# Altium footprint library WR-PHD_Socket Header_1.27mm.PcbLib: 24 footprints (part 2 of 2)
Each footprint in its own frame and in the unit in brackets; x right, y up, seen from the top. Pads: shape width x height; smd on the part's side, far side on the other; paste and mask are expansions set on the pad; w line width, h text height; cw(c..) or ccw(c..) is an arc to the next point about the centre after c.
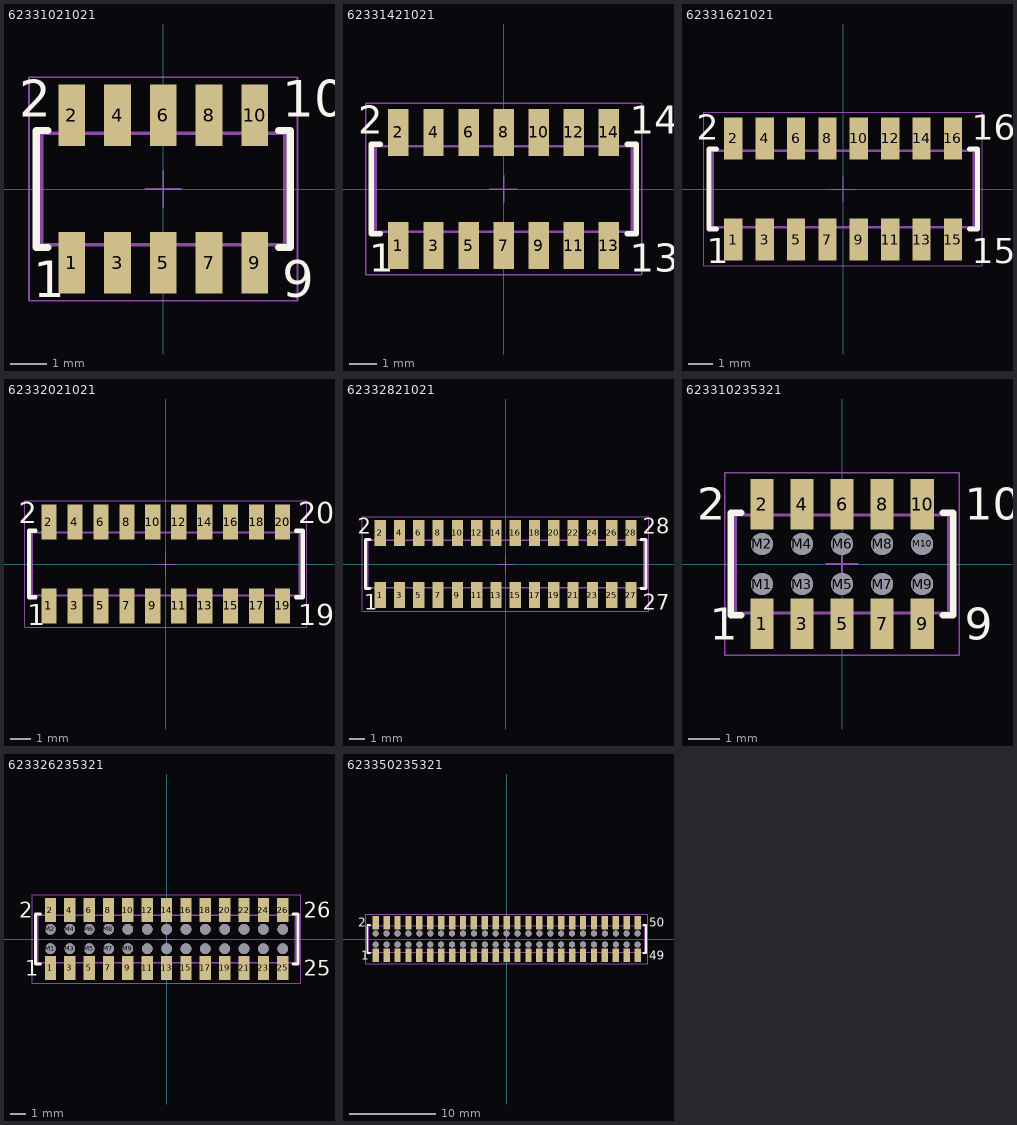
[diagram p1: the footprints below, top view; thin cyan lines are the x and y axes]

## 62331021021 [mm] "Socket Header, Pitch 1.27 mm, SMT, Vertical, dual row, 10p"
height 4.7
pads (10):
  rect 0.74x1.7 smd: 1(-2.54,-2.05) 2(-2.54,2.05) 3(-1.27,-2.05) 4(-1.27,2.05) 5(0,-2.05) 6(0,2.05) 7(1.27,-2.05) 8(1.27,2.05) 9(2.54,-2.05) 10(2.54,2.05)
Top Overlay:
  lines w0.2: -3.205,-1.625 -3.525,-1.625 -3.525,1.625 -3.205,1.625 ; 3.205,-1.625 3.525,-1.625 3.525,1.625 3.205,1.625
  text "1" at -3.605,-3 h1.02
  text "2" at -4.005,2 h1.02
  text "9" at 3.305,-3 h1.02
  text "10" at 3.305,2 h1.02
Mechanical 13:
  lines w0.1: -2.79,-1.55 -2.79,-2.3 -2.29,-2.3 -2.29,-1.55 ; -2.79,1.55 -2.79,2.3 -2.29,2.3 -2.29,1.55 ; -1.52,-1.55 -1.52,-2.3 -1.02,-2.3 -1.02,-1.55 ; -1.52,1.55 -1.52,2.3 -1.02,2.3 -1.02,1.55 ; -0.25,-1.55 -0.25,-2.3 0.25,-2.3 0.25,-1.55 ; -0.25,1.55 -0.25,2.3 0.25,2.3 0.25,1.55 ; 1.02,-1.55 1.02,-2.3 1.52,-2.3 1.52,-1.55 ; 1.02,1.55 1.02,2.3 1.52,2.3 1.52,1.55 ; 2.29,-1.55 2.29,-2.3 2.79,-2.3 2.79,-1.55 ; 2.29,1.55 2.29,2.3 2.79,2.3 2.79,1.55 ; -3.375,-1.55 -3.375,1.55 3.375,1.55 3.375,-1.55 -3.375,-1.55
Mechanical 15:
  lines w0.05: -0.5,0 0.5,0 ; 0,-0.5 0,0.5 ; -3.725,-3.1 -3.725,3.1 3.725,3.1 3.725,-3.1 -3.725,-3.1
3D body "62331021021.stp": height 4.69, standoff -0.01, extent -3.375,-2.299 3.375,2.299

## 62331421021 [mm] "Socket Header, Pitch 1.27 mm, SMT, Vertical, dual row, 14p"
height 4.7
pads (14):
  rect 0.74x1.7 smd: 1(-3.81,-2.05) 2(-3.81,2.05) 3(-2.54,-2.05) 4(-2.54,2.05) 5(-1.27,-2.05) 6(-1.27,2.05) 7(0,-2.05) 8(0,2.05) 9(1.27,-2.05) 10(1.27,2.05) 11(2.54,-2.05) 12(2.54,2.05) 13(3.81,-2.05) 14(3.81,2.05)
Top Overlay:
  lines w0.2: -4.475,-1.625 -4.795,-1.625 -4.795,1.625 -4.475,1.625 ; 4.475,-1.625 4.795,-1.625 4.795,1.625 4.475,1.625
  text "1" at -4.875,-3 h1.02
  text "2" at -5.275,2 h1.02
  text "13" at 4.575,-3 h1.02
  text "14" at 4.575,2 h1.02
Mechanical 13:
  lines w0.1: -4.06,-1.55 -4.06,-2.3 -3.56,-2.3 -3.56,-1.55 ; -4.06,1.55 -4.06,2.3 -3.56,2.3 -3.56,1.55 ; -2.79,-1.55 -2.79,-2.3 -2.29,-2.3 -2.29,-1.55 ; -2.79,1.55 -2.79,2.3 -2.29,2.3 -2.29,1.55 ; -1.52,-1.55 -1.52,-2.3 -1.02,-2.3 -1.02,-1.55 ; -1.52,1.55 -1.52,2.3 -1.02,2.3 -1.02,1.55 ; -0.25,-1.55 -0.25,-2.3 0.25,-2.3 0.25,-1.55 ; -0.25,1.55 -0.25,2.3 0.25,2.3 0.25,1.55 ; 1.02,-1.55 1.02,-2.3 1.52,-2.3 1.52,-1.55 ; 1.02,1.55 1.02,2.3 1.52,2.3 1.52,1.55 ; 2.29,-1.55 2.29,-2.3 2.79,-2.3 2.79,-1.55 ; 2.29,1.55 2.29,2.3 2.79,2.3 2.79,1.55 ; 3.56,-1.55 3.56,-2.3 4.06,-2.3 4.06,-1.55 ; 3.56,1.55 3.56,2.3 4.06,2.3 4.06,1.55 ; -4.645,-1.55 4.645,-1.55 4.645,1.55 -4.645,1.55 -4.645,-1.55
Mechanical 15:
  lines w0.05: -0.5,0 0.5,0 ; 0,-0.5 0,0.5 ; -4.995,-3.1 4.995,-3.1 4.995,3.1 -4.995,3.1 -4.995,-3.1
3D body "62331421021.stp": height 4.69, standoff -0.01, extent -4.645,-2.299 4.645,2.299

## 62331621021 [mm] "Socket Header, Pitch 1.27 mm, SMT, Vertical, dual row, 16p"
height 4.7
pads (16):
  rect 0.74x1.7 smd: 1(-4.445,-2.05) 2(-4.445,2.05) 3(-3.175,-2.05) 4(-3.175,2.05) 5(-1.905,-2.05) 6(-1.905,2.05) 7(-0.635,-2.05) 8(-0.635,2.05) 9(0.635,-2.05) 10(0.635,2.05) 11(1.905,-2.05) 12(1.905,2.05) 13(3.175,-2.05) 14(3.175,2.05) 15(4.445,-2.05) 16(4.445,2.05)
Top Overlay:
  lines w0.2: -5.11,-1.625 -5.43,-1.625 -5.43,1.625 -5.11,1.625 ; 5.11,-1.625 5.43,-1.625 5.43,1.625 5.11,1.625
  text "16" at 5.21,2 h1.02
  text "15" at 5.21,-3 h1.02
  text "2" at -5.91,2 h1.02
  text "1" at -5.51,-3 h1.02
Mechanical 13:
  lines w0.1: -4.695,-1.55 -4.695,-2.3 -4.195,-2.3 -4.195,-1.55 ; -4.695,1.55 -4.695,2.3 -4.195,2.3 -4.195,1.55 ; -3.425,-1.55 -3.425,-2.3 -2.925,-2.3 -2.925,-1.55 ; -3.425,1.55 -3.425,2.3 -2.925,2.3 -2.925,1.55 ; -2.155,-1.55 -2.155,-2.3 -1.655,-2.3 -1.655,-1.55 ; -2.155,1.55 -2.155,2.3 -1.655,2.3 -1.655,1.55 ; -0.885,-1.55 -0.885,-2.3 -0.385,-2.3 -0.385,-1.55 ; -0.885,1.55 -0.885,2.3 -0.385,2.3 -0.385,1.55 ; 0.385,-1.55 0.385,-2.3 0.885,-2.3 0.885,-1.55 ; 0.385,1.55 0.385,2.3 0.885,2.3 0.885,1.55 ; 1.655,-1.55 1.655,-2.3 2.155,-2.3 2.155,-1.55 ; 1.655,1.55 1.655,2.3 2.155,2.3 2.155,1.55 ; 2.925,-1.55 2.925,-2.3 3.425,-2.3 3.425,-1.55 ; 2.925,1.55 2.925,2.3 3.425,2.3 3.425,1.55 ; 4.195,-1.55 4.195,-2.3 4.695,-2.3 4.695,-1.55 ; 4.195,1.55 4.195,2.3 4.695,2.3 4.695,1.55 ; -5.28,-1.55 -5.28,1.55 5.28,1.55 5.28,-1.55 -5.28,-1.55
Mechanical 15:
  lines w0.05: -0.5,0 0.5,0 ; 0,-0.5 0,0.5 ; -5.63,-3.1 -5.63,3.1 5.63,3.1 5.63,-3.1 -5.63,-3.1
3D body "62331621021.stp": height 4.69, standoff -0.01, extent -5.28,-2.299 5.28,2.299

## 62332021021 [mm] "Socket Header, Pitch 1.27 mm, SMT, Vertical, dual row, 20p"
height 4.7
pads (20):
  rect 0.74x1.7 smd: 1(-5.715,-2.05) 2(-5.715,2.05) 3(-4.445,-2.05) 4(-4.445,2.05) 5(-3.175,-2.05) 6(-3.175,2.05) 7(-1.905,-2.05) 8(-1.905,2.05) 9(-0.635,-2.05) 10(-0.635,2.05) 11(0.635,-2.05) 12(0.635,2.05) 13(1.905,-2.05) 14(1.905,2.05) 15(3.175,-2.05) 16(3.175,2.05) 17(4.445,-2.05) 18(4.445,2.05) 19(5.715,-2.05) 20(5.715,2.05)
Top Overlay:
  lines w0.2: -6.38,-1.625 -6.7,-1.625 -6.7,1.625 -6.38,1.625 ; 6.38,-1.625 6.7,-1.625 6.7,1.625 6.38,1.625
  text "1" at -6.78,-3 h1.02
  text "2" at -7.18,2 h1.02
  text "19" at 6.48,-3 h1.02
  text "20" at 6.48,2 h1.02
Mechanical 13:
  lines w0.1: -5.965,-1.55 -5.965,-2.3 -5.465,-2.3 -5.465,-1.55 ; -5.965,1.55 -5.965,2.3 -5.465,2.3 -5.465,1.55 ; -4.695,-1.55 -4.695,-2.3 -4.195,-2.3 -4.195,-1.55 ; -4.695,1.55 -4.695,2.3 -4.195,2.3 -4.195,1.55 ; -3.425,-1.55 -3.425,-2.3 -2.925,-2.3 -2.925,-1.55 ; -3.425,1.55 -3.425,2.3 -2.925,2.3 -2.925,1.55 ; -2.155,-1.55 -2.155,-2.3 -1.655,-2.3 -1.655,-1.55 ; -2.155,1.55 -2.155,2.3 -1.655,2.3 -1.655,1.55 ; -0.885,-1.55 -0.885,-2.3 -0.385,-2.3 -0.385,-1.55 ; -0.885,1.55 -0.885,2.3 -0.385,2.3 -0.385,1.55 ; 0.385,-1.55 0.385,-2.3 0.885,-2.3 0.885,-1.55 ; 0.385,1.55 0.385,2.3 0.885,2.3 0.885,1.55 ; 1.655,-1.55 1.655,-2.3 2.155,-2.3 2.155,-1.55 ; 1.655,1.55 1.655,2.3 2.155,2.3 2.155,1.55 ; 2.925,-1.55 2.925,-2.3 3.425,-2.3 3.425,-1.55 ; 2.925,1.55 2.925,2.3 3.425,2.3 3.425,1.55 ; 4.195,-1.55 4.195,-2.3 4.695,-2.3 4.695,-1.55 ; 4.195,1.55 4.195,2.3 4.695,2.3 4.695,1.55 ; 5.465,-1.55 5.465,-2.3 5.965,-2.3 5.965,-1.55 ; 5.465,1.55 5.465,2.3 5.965,2.3 5.965,1.55 ; -6.55,-1.55 -6.55,1.55 6.55,1.55 6.55,-1.55 -6.55,-1.55
Mechanical 15:
  lines w0.05: -0.5,0 0.5,0 ; 0,-0.5 0,0.5 ; -6.9,-3.1 -6.9,3.1 6.9,3.1 6.9,-3.1 -6.9,-3.1
3D body "62332021021.stp": height 4.69, standoff -0.01, extent -6.55,-2.299 6.55,2.299

## 62332821021 [mm] "Socket Header, Pitch 1.27 mm, SMT, Vertical, dual row, 28p"
height 4.7
pads (28):
  rect 0.74x1.7 smd: 1(-8.255,-2.05) 2(-8.255,2.05) 3(-6.985,-2.05) 4(-6.985,2.05) 5(-5.715,-2.05) 6(-5.715,2.05) 7(-4.445,-2.05) 8(-4.445,2.05) 9(-3.175,-2.05) 10(-3.175,2.05) 11(-1.905,-2.05) 12(-1.905,2.05) 13(-0.635,-2.05) 14(-0.635,2.05) 15(0.635,-2.05) 16(0.635,2.05) 17(1.905,-2.05) 18(1.905,2.05) 19(3.175,-2.05) 20(3.175,2.05) 21(4.445,-2.05) 22(4.445,2.05) 23(5.715,-2.05) 24(5.715,2.05) 25(6.985,-2.05) 26(6.985,2.05) 27(8.255,-2.05) 28(8.255,2.05)
Top Overlay:
  lines w0.2: -8.92,-1.625 -9.24,-1.625 -9.24,1.625 -8.92,1.625 ; 8.92,-1.625 9.24,-1.625 9.24,1.625 8.92,1.625
  text "28" at 9.02,2 h1.02
  text "27" at 9.02,-3 h1.02
  text "1" at -9.32,-3 h1.02
  text "2" at -9.72,2 h1.02
Mechanical 13:
  lines w0.1: -8.505,-1.55 -8.505,-2.3 -8.005,-2.3 -8.005,-1.55 ; -8.505,1.55 -8.505,2.3 -8.005,2.3 -8.005,1.55 ; -7.235,-1.55 -7.235,-2.3 -6.735,-2.3 -6.735,-1.55 ; -7.235,1.55 -7.235,2.3 -6.735,2.3 -6.735,1.55 ; -5.965,-1.55 -5.965,-2.3 -5.465,-2.3 -5.465,-1.55 ; -5.965,1.55 -5.965,2.3 -5.465,2.3 -5.465,1.55 ; -4.695,-1.55 -4.695,-2.3 -4.195,-2.3 -4.195,-1.55 ; -4.695,1.55 -4.695,2.3 -4.195,2.3 -4.195,1.55 ; -3.425,-1.55 -3.425,-2.3 -2.925,-2.3 -2.925,-1.55 ; -3.425,1.55 -3.425,2.3 -2.925,2.3 -2.925,1.55 ; -2.155,-1.55 -2.155,-2.3 -1.655,-2.3 -1.655,-1.55 ; -2.155,1.55 -2.155,2.3 -1.655,2.3 -1.655,1.55 ; -0.885,-1.55 -0.885,-2.3 -0.385,-2.3 -0.385,-1.55 ; -0.885,1.55 -0.885,2.3 -0.385,2.3 -0.385,1.55 ; 0.385,-1.55 0.385,-2.3 0.885,-2.3 0.885,-1.55 ; 0.385,1.55 0.385,2.3 0.885,2.3 0.885,1.55 ; 1.655,-1.55 1.655,-2.3 2.155,-2.3 2.155,-1.55 ; 1.655,1.55 1.655,2.3 2.155,2.3 2.155,1.55 ; 2.925,-1.55 2.925,-2.3 3.425,-2.3 3.425,-1.55 ; 2.925,1.55 2.925,2.3 3.425,2.3 3.425,1.55 ; 4.195,-1.55 4.195,-2.3 4.695,-2.3 4.695,-1.55 ; 4.195,1.55 4.195,2.3 4.695,2.3 4.695,1.55 ; 5.465,-1.55 5.465,-2.3 5.965,-2.3 5.965,-1.55 ; 5.465,1.55 5.465,2.3 5.965,2.3 5.965,1.55 ; 6.735,-1.55 6.735,-2.3 7.235,-2.3 7.235,-1.55 ; 6.735,1.55 6.735,2.3 7.235,2.3 7.235,1.55 ; 8.005,-1.55 8.005,-2.3 8.505,-2.3 8.505,-1.55 ; 8.005,1.55 8.005,2.3 8.505,2.3 8.505,1.55 ; -9.09,-1.55 -9.09,1.55 9.09,1.55 9.09,-1.55 -9.09,-1.55
Mechanical 15:
  lines w0.05: -0.5,0 0.5,0 ; 0,-0.5 0,0.5 ; -9.44,-3.1 -9.44,3.1 9.44,3.1 9.44,-3.1 -9.44,-3.1
3D body "62332821021.stp": height 4.69, standoff -0.01, extent -9.09,-2.299 9.09,2.299

## 623310235321 [mm] "Socket Header, Pitch 1.27 mm, SMT, Vertical, dual row, 10p"
height 2.35
pads (20):
  rect 0.74x1.6 smd: 1(-2.54,-1.9) 2(-2.54,1.9) 3(-1.27,-1.9) 4(-1.27,1.9) 5(0,-1.9) 6(0,1.9) 7(1.27,-1.9) 8(1.27,1.9) 9(2.54,-1.9) 10(2.54,1.9)
  round 0.7 hole 0.7 unplated: M1(-2.54,-0.635) M2(-2.54,0.635) M3(-1.27,-0.635) M4(-1.27,0.635) M5(0,-0.635) M6(0,0.635) M7(1.27,-0.635) M8(1.27,0.635) M9(2.54,-0.635) M10(2.54,0.635)
Top Overlay:
  lines w0.2: -3.2,-1.625 -3.525,-1.625 -3.525,1.625 -3.2,1.625 ; 3.2,-1.625 3.525,-1.625 3.525,1.625 3.2,1.625
  text "1" at -4.2,-2.4 h1.02
  text "2" at -4.6,1.4 h1.02
  text "10" at 3.9,1.4 h1.02
  text "9" at 3.9,-2.4 h1.02
Mechanical 13:
  lines w0.1: -2.74,-1.55 -2.74,-2.2 -2.34,-2.2 -2.34,-1.55 ; -2.74,1.55 -2.74,2.2 -2.34,2.2 -2.34,1.55 ; -1.47,-1.55 -1.47,-2.2 -1.07,-2.2 -1.07,-1.55 ; -1.47,1.55 -1.47,2.2 -1.07,2.2 -1.07,1.55 ; -0.2,-1.55 -0.2,-2.2 0.2,-2.2 0.2,-1.55 ; -0.2,1.55 -0.2,2.2 0.2,2.2 0.2,1.55 ; 1.07,-1.55 1.07,-2.2 1.47,-2.2 1.47,-1.55 ; 1.07,1.55 1.07,2.2 1.47,2.2 1.47,1.55 ; 2.34,-1.55 2.34,-2.2 2.74,-2.2 2.74,-1.55 ; 2.34,1.55 2.34,2.2 2.74,2.2 2.74,1.55 ; -3.375,-1.55 -3.375,1.55 3.375,1.55 3.375,-1.55 -3.375,-1.55
Mechanical 15:
  lines w0.05: -0.5,0 0.5,0 ; 0,-0.5 0,0.5 ; -3.725,-2.9 -3.725,2.9 3.725,2.9 3.725,-2.9 -3.725,-2.9
3D body "623310235321.stp": height 2.25, standoff 0, extent -3.375,-2.2 3.375,2.2

## 623326235321 [mm] "Socket Header, Pitch 1.27 mm, SMT, Vertical, dual row, 26p"
height 2.35
pads (52):
  rect 0.74x1.6 smd: 1(-7.62,-1.9) 2(-7.62,1.9) 3(-6.35,-1.9) 4(-6.35,1.9) 5(-5.08,-1.9) 6(-5.08,1.9) 7(-3.81,-1.9) 8(-3.81,1.9) 9(-2.54,-1.9) 10(-2.54,1.9) 11(-1.27,-1.9) 12(-1.27,1.9) 13(0,-1.9) 14(0,1.9) 15(1.27,-1.9) 16(1.27,1.9) 17(2.54,-1.9) 18(2.54,1.9) 19(3.81,-1.9) 20(3.81,1.9) 21(5.08,-1.9) 22(5.08,1.9) 23(6.35,-1.9) 24(6.35,1.9) 25(7.62,-1.9) 26(7.62,1.9)
  round 0.7 hole 0.7 unplated: M1(-7.62,-0.635) M2(-7.62,0.635) M3(-6.35,-0.635) M4(-6.35,0.635) M5(-5.08,-0.635) M6(-5.08,0.635) M7(-3.81,-0.635) M8(-3.81,0.635) M9(-2.54,-0.635) M10(-2.54,0.635) M11(-1.27,-0.635) M12(-1.27,0.635) M13(0,-0.635) M14(0,0.635) M15(1.27,-0.635) M16(1.27,0.635) M17(2.54,-0.635) M18(2.54,0.635) M19(3.81,-0.635) M20(3.81,0.635) M21(5.08,-0.635) M22(5.08,0.635) M23(6.35,-0.635) M24(6.35,0.635) M25(7.62,-0.635) M26(7.62,0.635)
Top Overlay:
  lines w0.2: -8.28,-1.625 -8.605,-1.625 -8.605,1.625 -8.28,1.625 ; 8.28,-1.625 8.605,-1.625 8.605,1.625 8.28,1.625
  text "1" at -9.28,-2.4 h1.02
  text "2" at -9.68,1.4 h1.02
  text "26" at 8.98,1.4 h1.02
  text "25" at 8.98,-2.4 h1.02
Mechanical 13:
  lines w0.1: -7.82,-1.55 -7.82,-2.2 -7.42,-2.2 -7.42,-1.55 ; -7.82,1.55 -7.82,2.2 -7.42,2.2 -7.42,1.55 ; -6.55,-1.55 -6.55,-2.2 -6.15,-2.2 -6.15,-1.55 ; -6.55,1.55 -6.55,2.2 -6.15,2.2 -6.15,1.55 ; -5.28,-1.55 -5.28,-2.2 -4.88,-2.2 -4.88,-1.55 ; -5.28,1.55 -5.28,2.2 -4.88,2.2 -4.88,1.55 ; -4.01,-1.55 -4.01,-2.2 -3.61,-2.2 -3.61,-1.55 ; -4.01,1.55 -4.01,2.2 -3.61,2.2 -3.61,1.55 ; -2.74,-1.55 -2.74,-2.2 -2.34,-2.2 -2.34,-1.55 ; -2.74,1.55 -2.74,2.2 -2.34,2.2 -2.34,1.55 ; -1.47,-1.55 -1.47,-2.2 -1.07,-2.2 -1.07,-1.55 ; -1.47,1.55 -1.47,2.2 -1.07,2.2 -1.07,1.55 ; -0.2,-1.55 -0.2,-2.2 0.2,-2.2 0.2,-1.55 ; -0.2,1.55 -0.2,2.2 0.2,2.2 0.2,1.55 ; 1.07,-1.55 1.07,-2.2 1.47,-2.2 1.47,-1.55 ; 1.07,1.55 1.07,2.2 1.47,2.2 1.47,1.55 ; 2.34,-1.55 2.34,-2.2 2.74,-2.2 2.74,-1.55 ; 2.34,1.55 2.34,2.2 2.74,2.2 2.74,1.55 ; 3.61,-1.55 3.61,-2.2 4.01,-2.2 4.01,-1.55 ; 3.61,1.55 3.61,2.2 4.01,2.2 4.01,1.55 ; 4.88,-1.55 4.88,-2.2 5.28,-2.2 5.28,-1.55 ; 4.88,1.55 4.88,2.2 5.28,2.2 5.28,1.55 ; 6.15,-1.55 6.15,-2.2 6.55,-2.2 6.55,-1.55 ; 6.15,1.55 6.15,2.2 6.55,2.2 6.55,1.55 ; 7.42,-1.55 7.42,-2.2 7.82,-2.2 7.82,-1.55 ; 7.42,1.55 7.42,2.2 7.82,2.2 7.82,1.55 ; -8.455,-1.55 -8.455,1.55 8.455,1.55 8.455,-1.55 -8.455,-1.55
Mechanical 15:
  lines w0.05: -0.5,0 0.5,0 ; 0,-0.5 0,0.5 ; -8.805,-2.9 -8.805,2.9 8.805,2.9 8.805,-2.9 -8.805,-2.9
3D body "623326235321.stp": height 2.25, standoff 0, extent -8.455,-2.2 8.455,2.2

## 623350235321 [mm] "Socket Header, Pitch 1.27 mm, SMT, Vertical, dual row, 50p"
height 2.35
pads (100):
  rect 0.74x1.6 smd: 1(-15.24,-1.9) 2(-15.24,1.9) 3(-13.97,-1.9) 4(-13.97,1.9) 5(-12.7,-1.9) 6(-12.7,1.9) 7(-11.43,-1.9) 8(-11.43,1.9) 9(-10.16,-1.9) 10(-10.16,1.9) 11(-8.89,-1.9) 12(-8.89,1.9) 13(-7.62,-1.9) 14(-7.62,1.9) 15(-6.35,-1.9) 16(-6.35,1.9) 17(-5.08,-1.9) 18(-5.08,1.9) 19(-3.81,-1.9) 20(-3.81,1.9) 21(-2.54,-1.9) 22(-2.54,1.9) 23(-1.27,-1.9) 24(-1.27,1.9) 25(0,-1.9) 26(0,1.9) 27(1.27,-1.9) 28(1.27,1.9) 29(2.54,-1.9) 30(2.54,1.9) 31(3.81,-1.9) 32(3.81,1.9) 33(5.08,-1.9) 34(5.08,1.9) 35(6.35,-1.9) 36(6.35,1.9) 37(7.62,-1.9) 38(7.62,1.9) 39(8.89,-1.9) 40(8.89,1.9) 41(10.16,-1.9) 42(10.16,1.9) 43(11.43,-1.9) 44(11.43,1.9) 45(12.7,-1.9) 46(12.7,1.9) 47(13.97,-1.9) 48(13.97,1.9) 49(15.24,-1.9) 50(15.24,1.9)
  round 0.7 hole 0.7 unplated: M1(-15.24,-0.635) M2(-15.24,0.635) M3(-13.97,-0.635) M4(-13.97,0.635) M5(-12.7,-0.635) M6(-12.7,0.635) M7(-11.43,-0.635) M8(-11.43,0.635) M9(-10.16,-0.635) M10(-10.16,0.635) M11(-8.89,-0.635) M12(-8.89,0.635) M13(-7.62,-0.635) M14(-7.62,0.635) M15(-6.35,-0.635) M16(-6.35,0.635) M17(-5.08,-0.635) M18(-5.08,0.635) M19(-3.81,-0.635) M20(-3.81,0.635) M21(-2.54,-0.635) M22(-2.54,0.635) M23(-1.27,-0.635) M24(-1.27,0.635) M25(0,-0.635) M26(0,0.635) M27(1.27,-0.635) M28(1.27,0.635) M29(2.54,-0.635) M30(2.54,0.635) M31(3.81,-0.635) M32(3.81,0.635) M33(5.08,-0.635) M34(5.08,0.635) M35(6.35,-0.635) M36(6.35,0.635) M37(7.62,-0.635) M38(7.62,0.635) M39(8.89,-0.635) M40(8.89,0.635) M41(10.16,-0.635) M42(10.16,0.635) M43(11.43,-0.635) M44(11.43,0.635) M45(12.7,-0.635) M46(12.7,0.635) M47(13.97,-0.635) M48(13.97,0.635) M49(15.24,-0.635) M50(15.24,0.635)
Top Overlay:
  lines w0.2: -15.9,-1.625 -16.225,-1.625 -16.225,1.625 -15.9,1.625 ; 15.9,-1.625 16.225,-1.625 16.225,1.625 15.9,1.625
  text "49" at 16.6,-2.4 h1.02
  text "50" at 16.6,1.4 h1.02
  text "2" at -17.3,1.4 h1.02
  text "1" at -16.9,-2.4 h1.02
Mechanical 13:
  drawing of 154 lines, arcs and shapes, not listed
Mechanical 15:
  lines w0.05: -0.5,0 0.5,0 ; 0,-0.5 0,0.5 ; -16.425,-2.9 16.425,-2.9 16.425,2.9 -16.425,2.9 -16.425,-2.9
3D body "623350235321.stp": height 2.25, standoff 0, extent -16.075,-2.2 16.075,2.2